# EAGLE library part DTRIODE_SHIELDED (library FHD-RETRO)
Generic B9A Dual-Triode footprint. For Shielded single heater tubes. examples: 6H30Pi, 6922
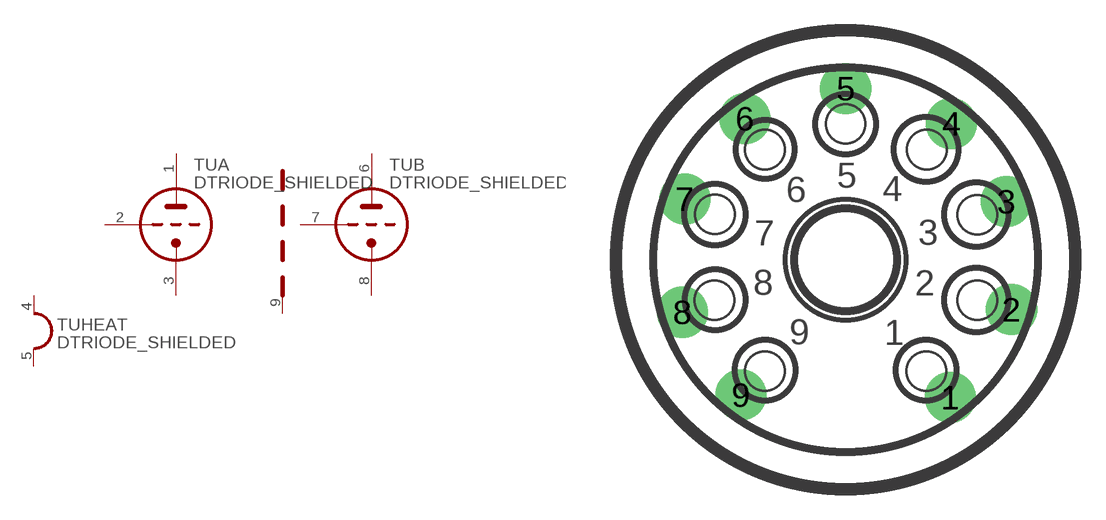
[diagram p10: symbol with the pads of NOVAL; footprint NOVAL]

Designator prefix TU; gates HEAT=HEATER_1 A=TRIODE-HALF B=TRIODE-HALF S=TUBE_SHIELD

## DTRIODE_SHIELDED  [NOVAL]
1  A:TA  pas
2  A:TG  pas
3  A:TK  pas
4  HEAT:H1  pas
5  HEAT:H2  pas
6  B:TA  pas
7  B:TG  pas
8  B:TK  pas
9  S:P$1

## Footprint NOVAL (pad centres in mm)
drill 1.422 pad 2.54: 1 5.207,-6.858; 2 8.254,-2.484; 3 8.004,2.893; 4 5.258,6.77; 5 0,8.524; 6 -5.004,7.024; 7 -8.004,3.02; 8 -8.127,-2.611; 9 -5.207,-6.731